# EAGLE library part TUSB2036VF (library BMO)
2/3 port Hub for the Universal serial bus with optional serial EEPROM Interface
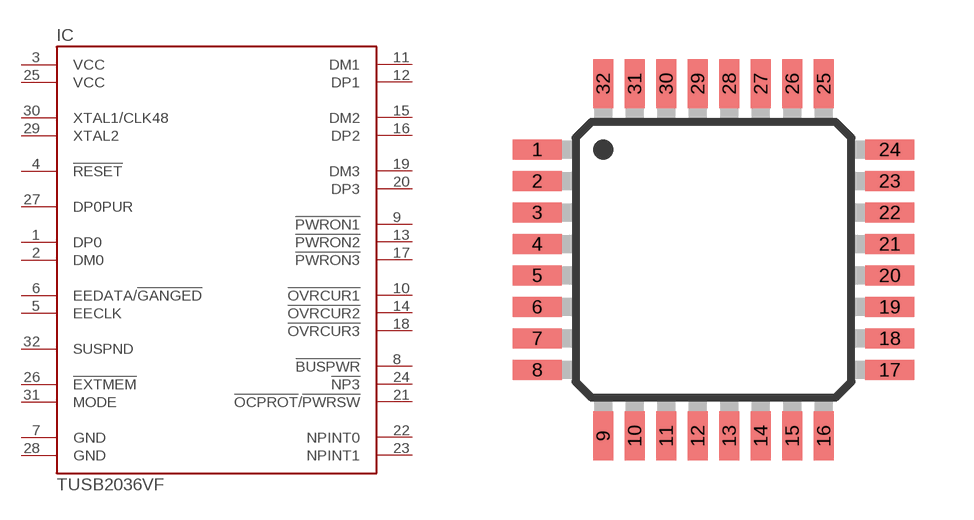
[diagram p1: symbol with the pads of VF_S-PQFP-G32; footprint VF_S-PQFP-G32]

Designator prefix IC

## TUSB2036VF  [VF_S-PQFP-G32]
1  DP0
2  DM0
3  VCC  pwr
4  !RESET  in
5  EECLK  out
6  EEDATA/!GANGED
7  GND  pwr
8  !BUSPWR  in
9  !PWRON1  out
10  !OVRCUR1  in
11  DM1
12  DP1
13  !PWRON2  out
14  !OVRCUR2  in
15  DM2
16  DP2
17  !PWRON3  out
18  !OVRCUR3  in
19  DM3
20  DP3
21  !OCPROT!/!PWRSW!  in
22  NPINT0  in
23  NPINT1  in
24  !NP3  in
25  VCC  pwr
26  !EXTMEM  in
27  DP0PUR  out
28  GND  pwr
29  XTAL2  out
30  XTAL1/CLK48  in
31  MODE  in
32  SUSPND  out

## Footprint VF_S-PQFP-G32 (pad centres in mm)
VF (S-PQFP-G32) Source: http://focus.ti.com/lit/ds/symlink/tusb2046b.pdf
smd 1.25 x 0.5: 1 -4.475,2.8; 2 -4.475,2; 3 -4.475,1.2; 4 -4.475,0.4; 5 -4.475,-0.4; 6 -4.475,-1.2; 7 -4.475,-2; 8 -4.475,-2.8; 17 4.475,-2.8; 18 4.475,-2; 19 4.475,-1.2; 20 4.475,-0.4; 21 4.475,0.4; 22 4.475,1.2; 23 4.475,2; 24 4.475,2.8
smd 0.5 x 1.25: 9 -2.8,-4.475; 10 -2,-4.475; 11 -1.2,-4.475; 12 -0.4,-4.475; 13 0.4,-4.475; 14 1.2,-4.475; 15 2,-4.475; 16 2.8,-4.475; 25 2.8,4.475; 26 2,4.475; 27 1.2,4.475; 28 0.4,4.475; 29 -0.4,4.475; 30 -1.2,4.475; 31 -2,4.475; 32 -2.8,4.475